# EAGLE library part RES_ARRAY8_DIP (library LITTLEBITS140826)
DIL RESISTOR
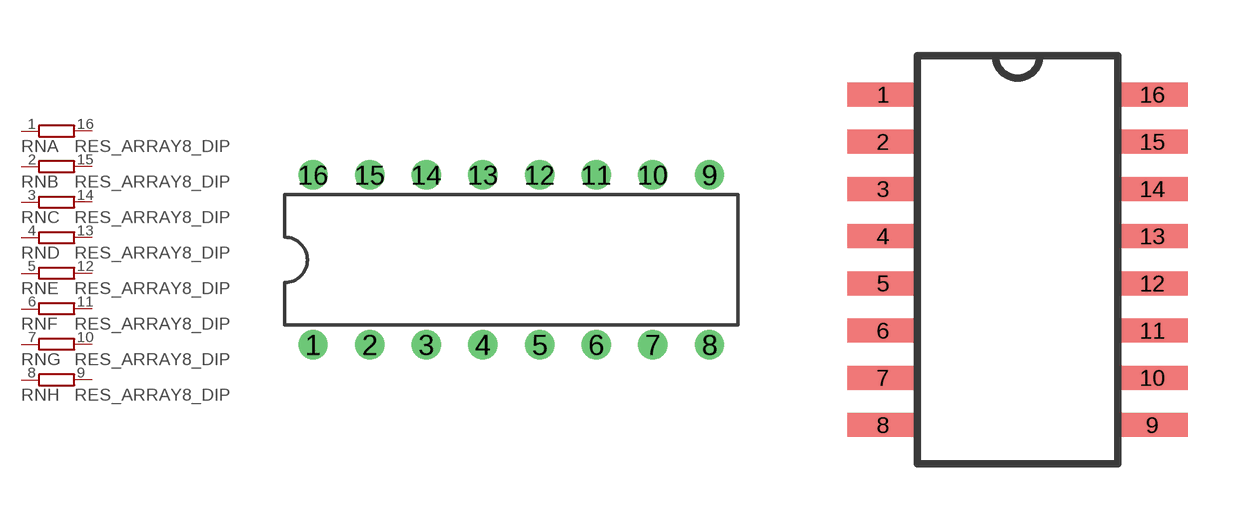
[diagram p25: symbol with the pads of DIL16; footprints DIL16, SOMC16]

Designator prefix RN; gates A=R1NV B=R1NV C=R1NV D=R1NV E=R1NV F=R1NV G=R1NV H=R1NV

## RES_ARRAY8_DIP  [DIL16]
1  A:1  pas
2  B:1  pas
3  C:1  pas
4  D:1  pas
5  E:1  pas
6  F:1  pas
7  G:1  pas
8  H:1  pas
9  H:2  pas
10  G:2  pas
11  F:2  pas
12  E:2  pas
13  D:2  pas
14  C:2  pas
15  B:2  pas
16  A:2  pas

## RES_ARRAY8_DIPSOMC (OC_FARNELL: unknown; OC_NEWARK: unknown)  [SOMC16]
Pads as for DIL16

## RES_ARRAY8_DIPEXB2HV  [EXB2HV]
Pads as for DIL16

## Footprint DIL16 (pad centres in mm)
Dual In Line Package
drill 0.813: 1 -8.89,-3.81; 2 -6.35,-3.81; 3 -3.81,-3.81; 4 -1.27,-3.81; 5 1.27,-3.81; 6 3.81,-3.81; 7 6.35,-3.81; 8 8.89,-3.81; 9 8.89,3.81; 10 6.35,3.81; 11 3.81,3.81; 12 1.27,3.81; 13 -1.27,3.81; 14 -3.81,3.81; 15 -6.35,3.81; 16 -8.89,3.81

## Footprint SOMC16 (pad centres in mm)
SOMC 16 Auto generated by make-symbol-device-package-bsdl.ulp Rev. 12 Source: www.vishay.com/docs/31508/somc.pdf
smd 1.91 x 0.64: 1 -3.62,4.445; 2 -3.62,3.175; 3 -3.62,1.905; 4 -3.62,0.635; 5 -3.62,-0.635; 6 -3.62,-1.905; 7 -3.62,-3.175; 8 -3.62,-4.445; 9 3.62,-4.445; 10 3.62,-3.175; 11 3.62,-1.905; 12 3.62,-0.635; 13 3.62,0.635; 14 3.62,1.905; 15 3.62,3.175; 16 3.62,4.445

## Footprint EXB2HV (pad centres in mm)
Chip Resistor Array 0402x8 8 resistors in 3.8 mm x 1.6 mm size (EXB2HV) Source: PANASONIC .. aoc0000ce1.pdf
smd 0.35 x 0.5: 1 -1.8,-0.75; 8 1.8,-0.75; 9 1.8,0.75; 16 -1.8,0.75
smd 0.25 x 0.5: 2 -1.25,-0.75; 3 -0.75,-0.75; 4 -0.25,-0.75; 5 0.25,-0.75; 6 0.75,-0.75; 7 1.25,-0.75; 10 1.25,0.75; 11 0.75,0.75; 12 0.25,0.75; 13 -0.25,0.75; 14 -0.75,0.75; 15 -1.25,0.75